# Altium footprint library WP934.PcbLib: 1 footprints
Each footprint in its own frame and in the unit in brackets; x right, y up, seen from the top. Pads: shape width x height; smd on the part's side, far side on the other; paste and mask are expansions set on the pad; w line width, h text height; cw(c..) or ccw(c..) is an arc to the next point about the centre after c.
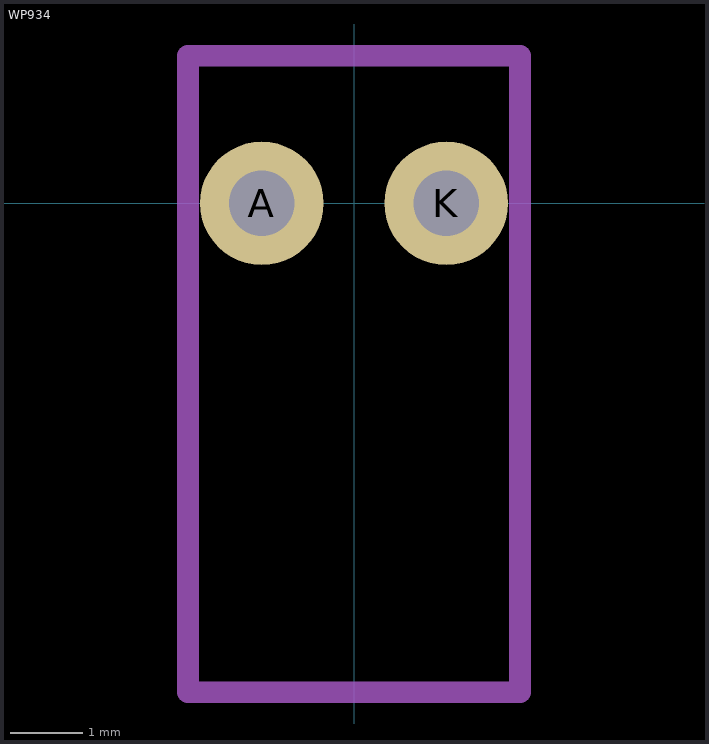
[diagram p0: the footprint, top view; thin cyan lines are the x and y axes]

## WP934 [mm]
pads (2):
  round 1.7 hole 0.9: A(-1.27,0) K(1.27,0)
Mechanical 13:
  lines w0.3: -2.286,-6.731 2.286,-6.731 2.286,2.032 -2.286,2.032 -2.286,-6.731
  text ".Designator" at -2.6,-3.98 h2.5
3D body: height 7.25, standoff -3.55, extent -2.3,-6.718 2.3,2.032